# Altium footprint library Jumper_2.54.PcbLib: 1 footprints
Each footprint in its own frame and in the unit in brackets; x right, y up, seen from the top. Pads: shape width x height; smd on the part's side, far side on the other; paste and mask are expansions set on the pad; w line width, h text height; cw(c..) or ccw(c..) is an arc to the next point about the centre after c.
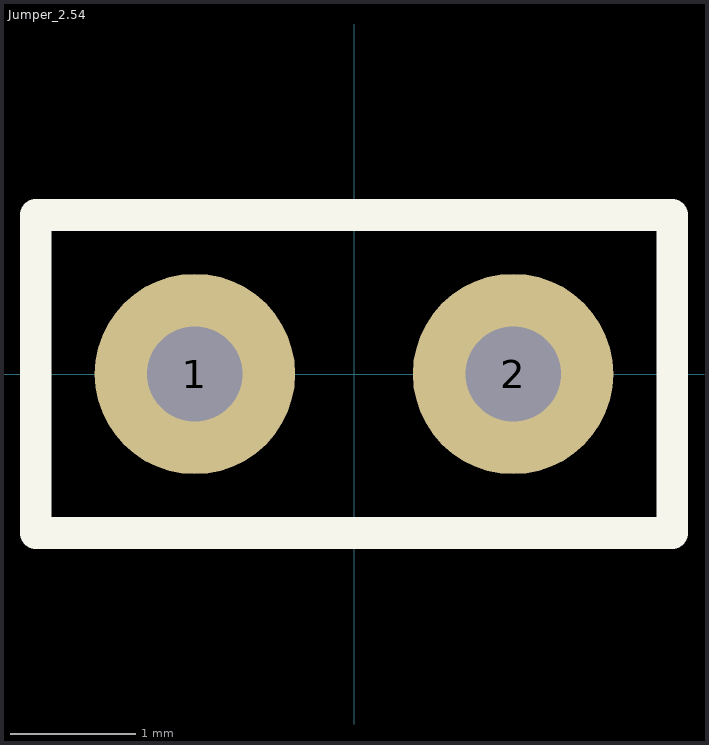
[diagram p0: the footprint, top view; thin cyan lines are the x and y axes]

## Jumper_2.54 [mm]
height 0.508
pads (2):
  round 1.6 hole 0.762: 1(-1.27,0) 2(1.27,0)
Top Overlay:
  lines w0.254: -2.54,-1.27 -2.54,1.27 2.54,1.27 2.54,-1.27 2.286,-1.27 0.254,-1.27 -2.54,-1.27
Bottom Overlay:
  lines w0.254: -2.54,-1.27 -2.54,1.27 2.54,1.27 2.54,-1.27 -2.54,-1.27
3D body "Connector 2 PIN Wurth.STEP": height 9.05, standoff -2.49, extent -2.54,-1.27 2.54,1.27
3D body "2 Pin jumper.step": height 8.5, standoff 2.5, extent -2.6,-1.2 2.6,1.2